# EAGLE library part WM8974 (library WM8974_snapEDA)
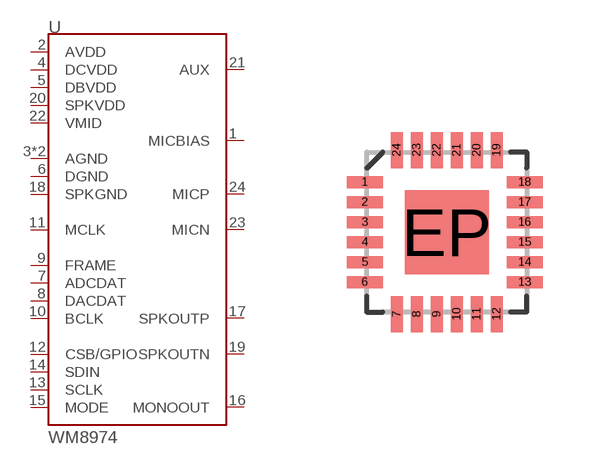
[diagram p0: symbol with the pads of QFN-24_ALT2; footprint QFN-24_ALT2]

Designator prefix -

## WM8974  [QFN-24_ALT2]
1  MICBIAS  out
2  AVDD  pwr
3  AGND  pwr
4  DCVDD  pwr
5  DBVDD  pwr
6  DGND  pwr
7  ADCDAT  out
8  DACDAT  in
9  FRAME
10  BCLK
11  MCLK  in
12  CSB/GPIO
13  SCLK  in
14  SDIN
15  MODE  in
16  MONOOUT  out
17  SPKOUTP  out
18  SPKGND  pwr
19  SPKOUTN  out
20  SPKVDD  pwr
21  AUX  in
22  VMID
23  MICN  in
24  MICP  in
EP  AGND  pwr

## Footprint QFN-24_ALT2 (pad centres in mm)
24-pin QFN with Exposed Thermal pad Parts that use this package: A6282 Last modified: 8/20/10 ***UNPROVEN***
smd 0.9 x 0.3: 1 -2.05,1.25; 2 -2.05,0.75; 3 -2.05,0.25; 4 -2.05,-0.25; 5 -2.05,-0.75; 6 -2.05,-1.25; 13 1.95,-1.25; 14 1.95,-0.75; 15 1.95,-0.25; 16 1.95,0.25; 17 1.95,0.75; 18 1.95,1.25
smd 0.3 x 0.9: 7 -1.25,-2.05; 8 -0.75,-2.05; 9 -0.25,-2.05; 10 0.25,-2.05; 11 0.75,-2.05; 12 1.25,-2.05; 19 1.25,2.05; 20 0.75,2.05; 21 0.25,2.05; 22 -0.25,2.05; 23 -0.75,2.05; 24 -1.25,2.05
smd 2.1 x 2.1: EP 0,0